# Altium footprint library Footprints1.PcbLib: 40 footprints (part 3 of 3)
Each footprint in its own frame and in the unit in brackets; x right, y up, seen from the top. Pads: shape width x height; smd on the part's side, far side on the other; paste and mask are expansions set on the pad; w line width, h text height; cw(c..) or ccw(c..) is an arc to the next point about the centre after c.
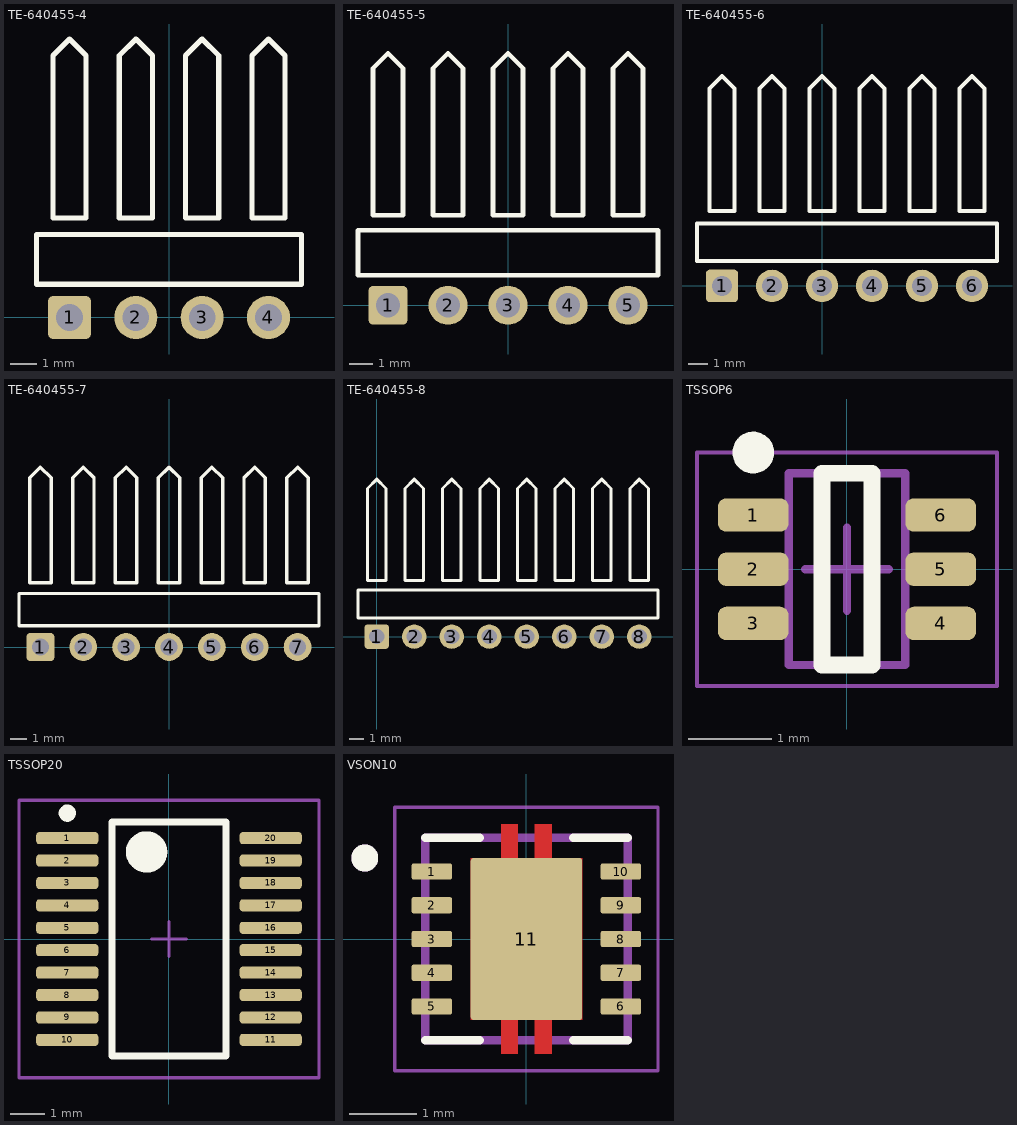
[diagram p2: the footprints below, top view; thin cyan lines are the x and y axes]

## TE-640455-4 [mm] "CONN HEADER RTANG 4POS .100 TIN"
pads (4):
  rrect25% 1.65x1.65 hole 1.02: 1(-3.81,0)
  round 1.65 hole 1.02: 2(-1.27,0) 3(1.27,0) 4(3.81,0)
Top Overlay:
  lines w0.2: -5.08,1.27 5.08,1.27 5.08,3.175 -5.08,3.175 -5.08,1.27 ; -4.445,3.81 -3.175,3.81 -3.175,10.033 -3.81,10.668 -4.445,10.033 -4.445,3.81 ; -1.905,3.81 -1.905,10.033 -1.27,10.668 -0.635,10.033 -0.635,3.81 -1.905,3.81 ; 0.635,3.81 1.905,3.81 1.905,10.033 1.27,10.668 0.635,10.033 0.635,3.81 ; 3.175,3.81 4.445,3.81 4.445,10.033 3.81,10.668 3.175,10.033 3.175,3.81
3D body "c-640455-4-y-3d.STEP": height 6.49, standoff -3.54, extent -5.08,-0.254 5.08,10.795

## TE-640455-5 [mm] "CONN HEADER RTANG 5POS .100 TIN"
pads (5):
  rrect25% 1.65x1.65 hole 1.02: 1(-5.08,0)
  round 1.65 hole 1.02: 2(-2.54,0) 3(0,0) 4(2.54,0) 5(5.08,0)
Top Overlay:
  lines w0.2: -6.35,1.27 6.35,1.27 6.35,3.175 -6.35,3.175 -6.35,1.27 ; -5.715,3.81 -4.445,3.81 -4.445,10.033 -5.08,10.668 -5.715,10.033 -5.715,3.81 ; -3.175,3.81 -3.175,10.033 -2.54,10.668 -1.905,10.033 -1.905,3.81 -3.175,3.81 ; -0.635,3.81 0.635,3.81 0.635,10.033 0,10.668 -0.635,10.033 -0.635,3.81 ; 1.905,3.81 3.175,3.81 3.175,10.033 2.54,10.668 1.905,10.033 1.905,3.81 ; 4.445,3.81 5.715,3.81 5.715,10.033 5.08,10.668 4.445,10.033 4.445,3.81
3D body "c-640455-5-y-3d.STEP": height 6.49, standoff -3.54, extent -6.35,-0.33 6.35,10.719

## TE-640455-6 [mm] "CONN HEADER RTANG 6POS .100 TIN"
pads (6):
  rrect25% 1.65x1.65 hole 1.02: 1(-5.08,0)
  round 1.65 hole 1.02: 2(-2.54,0) 3(0,0) 4(2.54,0) 5(5.08,0) 6(7.62,0)
Top Overlay:
  lines w0.2: -6.35,1.27 -6.35,3.175 8.89,3.175 8.89,1.27 -6.35,1.27 ; -5.715,3.81 -5.715,10.033 -5.08,10.668 -4.445,10.033 -4.445,3.81 -5.715,3.81 ; -3.175,3.81 -1.905,3.81 -1.905,10.033 -2.54,10.668 -3.175,10.033 -3.175,3.81 ; -0.635,3.81 -0.635,10.033 0,10.668 0.635,10.033 0.635,3.81 -0.635,3.81 ; 1.905,3.81 1.905,10.033 2.54,10.668 3.175,10.033 3.175,3.81 1.905,3.81 ; 4.445,3.81 4.445,10.033 5.08,10.668 5.715,10.033 5.715,3.81 4.445,3.81 ; 6.985,3.81 8.255,3.81 8.255,10.033 7.62,10.668 6.985,10.033 6.985,3.81
3D body "c-640455-6-y-3d.STEP": height 6.49, standoff -3.54, extent -6.35,-0.305 8.89,10.744

## TE-640455-7 [mm] "CONN HEADER RTANG 7POS .100 TIN"
pads (7):
  rrect25% 1.65x1.65 hole 1.02: 1(-7.62,0)
  round 1.65 hole 1.02: 2(-5.08,0) 3(-2.54,0) 4(0,0) 5(2.54,0) 6(5.08,0) 7(7.62,0)
Top Overlay:
  lines w0.2: -8.89,1.27 8.89,1.27 8.89,3.175 -8.89,3.175 -8.89,1.27 ; -8.255,3.81 -6.985,3.81 -6.985,10.033 -7.62,10.668 -8.255,10.033 -8.255,3.81 ; -5.715,3.81 -5.715,10.033 -5.08,10.668 -4.445,10.033 -4.445,3.81 -5.715,3.81 ; -3.175,3.81 -1.905,3.81 -1.905,10.033 -2.54,10.668 -3.175,10.033 -3.175,3.81 ; -0.635,3.81 0.635,3.81 0.635,10.033 0,10.668 -0.635,10.033 -0.635,3.81 ; 1.905,3.81 3.175,3.81 3.175,10.033 2.54,10.668 1.905,10.033 1.905,3.81 ; 4.445,3.81 5.715,3.81 5.715,10.033 5.08,10.668 4.445,10.033 4.445,3.81 ; 6.985,3.81 8.255,3.81 8.255,10.033 7.62,10.668 6.985,10.033 6.985,3.81
3D body "c-640455-7-y-3d.STEP": height 6.49, standoff -3.54, extent -8.89,-0.33 8.89,10.719

## TE-640455-8 [mm] "CONN HEADER RTANG 8POS .100 TIN"
pads (8):
  rrect25% 1.65x1.65 hole 1.02: 1(0,0)
  round 1.65 hole 1.02: 2(2.54,0) 3(5.08,0) 4(7.62,0) 5(10.16,0) 6(12.7,0) 7(15.24,0) 8(17.78,0)
Top Overlay:
  lines w0.2: -1.27,1.27 19.05,1.27 19.05,3.175 -1.27,3.175 -1.27,1.27 ; -0.635,3.81 0.635,3.81 0.635,10.033 0,10.668 -0.635,10.033 -0.635,3.81 ; 1.905,3.81 1.905,10.033 2.54,10.668 3.175,10.033 3.175,3.81 1.905,3.81 ; 4.445,3.81 5.715,3.81 5.715,10.033 5.08,10.668 4.445,10.033 4.445,3.81 ; 6.985,3.81 8.255,3.81 8.255,10.033 7.62,10.668 6.985,10.033 6.985,3.81 ; 9.525,3.81 10.795,3.81 10.795,10.033 10.16,10.668 9.525,10.033 9.525,3.81 ; 12.065,3.81 13.335,3.81 13.335,10.033 12.7,10.668 12.065,10.033 12.065,3.81 ; 14.605,3.81 15.875,3.81 15.875,10.033 15.24,10.668 14.605,10.033 14.605,3.81 ; 17.145,3.81 17.145,10.033 17.78,10.668 18.415,10.033 18.415,3.81 17.145,3.81
3D body "c-640455-7-y-3d.STEP": height 6.49, standoff -3.54, extent -1.27,-0.33 16.51,10.719

## TSSOP6 [mm]
height 2.65
pads (6):
  rrect50% 0.85x0.4 smd: 1(-1.125,0.65) 2(-1.125,0) 3(-1.125,-0.65) 4(1.125,-0.65) 5(1.125,0) 6(1.125,0.65)
Top Overlay:
  circle w0.25: c-1.125,1.4 r0.125
  lines w0.2: -0.3,-1.15 0.3,-1.15 0.3,1.15 -0.3,1.15 -0.3,-1.15
Top Assembly (Mech13):
  lines w0.1: -0.7,-1.15 0.7,-1.15 0.7,1.15 -0.7,1.15 -0.7,-1.15
Top Courtyard:
  lines w0.05: -1.8,-1.4 1.8,-1.4 1.8,1.4 -1.8,1.4 -1.8,-1.4
  lines w0.1: -0.5,0 0.5,0 ; 0,-0.5 0,0.5
3D body: height 2.65, standoff 0.1, extent -0.7,-1.15 0.7,1.15

## TSSOP20 [mm] "TSOP, 14-Leads, Body 5.1x4.5mm (max), Pitch 0.65mm, IPC Low Density"
height 1.2
pads (20):
  rrect50% 1.8x0.35 smd: 1(-2.95,2.925) 2(-2.95,2.275) 3(-2.95,1.625) 4(-2.95,0.975) 5(-2.95,0.325) 6(-2.95,-0.325) 7(-2.95,-0.975) 8(-2.95,-1.625) 9(-2.95,-2.275) 10(-2.95,-2.925) 11(2.95,-2.925) 12(2.95,-2.275) 13(2.95,-1.625) 14(2.95,-0.975) 15(2.95,-0.325) 16(2.95,0.325) 17(2.95,0.975) 18(2.95,1.625) 19(2.95,2.275) 20(2.95,2.925)
Top Overlay:
  circle w0.6: c-0.65,2.525 r0.3
  circle w0.25: c-2.95,3.65 r0.125
  lines w0.2: -1.65,-3.388 -1.65,3.388 1.65,3.388 1.65,-3.388 -1.65,-3.388
Top Courtyard:
  lines w0.1: -0.5,0 0.5,0 ; 0,-0.5 0,0.5 ; -4.35,-4.025 -4.35,4.025 4.35,4.025 4.35,-4.025 -4.35,-4.025
3D body "TSSOP20.STEP": height 1.09, standoff 0, extent -3.15,-3.35 3.13,3.15

## VSON10 [mm]
pads (11):
  rrect25% 0.6x0.24 smd mask+0: 1(-1.4,1) 2(-1.4,0.5) 3(-1.4,0) 4(-1.4,-0.5) 5(-1.4,-1) 6(1.4,-1) 7(1.4,-0.5) 8(1.4,0) 9(1.4,0.5) 10(1.4,1)
  rrect5% 1.65x2.4 smd paste-2 mask+0: 11(0,0)
Top Layer:
  region: 0.375,1.2 0.825,1.2 0.825,-1.2 0.375,-1.2 0.375,-1.7 0.125,-1.7 0.125,-1.2 -0.125,-1.2 -0.125,-1.7 -0.375,-1.7 -0.375,-1.2 -0.825,-1.2 -0.825,1.2 -0.375,1.2 -0.375,1.7 -0.125,1.7 -0.125,1.2 0.125,1.2 0.125,1.7 0.375,1.7
Top Overlay:
  circle w0.2: c-2.395,1.2 r0.1
  lines w0.127: -1.5,-1.5 -0.695,-1.5 ; -1.5,1.5 -0.695,1.5 ; 0.695,-1.5 1.5,-1.5 ; 0.695,1.5 1.5,1.5
Top Paste:
  region: -0.125,-1.7 -0.375,-1.7 -0.375,-1.36 -0.125,-1.36
  region: 0.375,-1.7 0.125,-1.7 0.125,-1.36 0.375,-1.36
  region: -0.125,1.36 -0.375,1.36 -0.375,1.7 -0.125,1.7
  region: 0.375,1.36 0.125,1.36 0.125,1.7 0.375,1.7
  region: 0.75,-1.16 -0.75,-1.16 -0.75,-0.1 0.75,-0.1
  region: 0.75,0.1 -0.75,0.1 -0.75,1.16 0.75,1.16
Top Solder:
  region: -1.03,0.81 -1.77,0.81 -1.77,1.19 -1.03,1.19
  region: -1.03,0.31 -1.77,0.31 -1.77,0.69 -1.03,0.69
  region: -1.03,-0.19 -1.77,-0.19 -1.77,0.19 -1.03,0.19
  region: -1.03,-0.69 -1.77,-0.69 -1.77,-0.31 -1.03,-0.31
  region: -1.03,-1.19 -1.77,-1.19 -1.77,-0.81 -1.03,-0.81
  region: 1.77,-1.19 1.03,-1.19 1.03,-0.81 1.77,-0.81
  region: 1.77,-0.69 1.03,-0.69 1.03,-0.31 1.77,-0.31
  region: 1.77,-0.19 1.03,-0.19 1.03,0.19 1.77,0.19
  region: 1.77,0.31 1.03,0.31 1.03,0.69 1.77,0.69
  region: 1.77,0.81 1.03,0.81 1.03,1.19 1.77,1.19
  region: 0.445,1.27 0.895,1.27 0.895,-1.27 0.445,-1.27 0.445,-1.77 0.055,-1.77 0.055,-1.27 -0.055,-1.27 -0.055,-1.77 -0.445,-1.77 -0.445,-1.27 -0.895,-1.27 -0.895,1.27 -0.445,1.27 -0.445,1.77 -0.055,1.77 -0.055,1.27 0.055,1.27 0.055,1.77 0.445,1.77
Top Assembly (Mech13):
  circle w0.2: c-2.395,1.2 r0.1
  lines w0.127: -1.5,-1.5 1.5,-1.5 1.5,1.5 -1.5,1.5 -1.5,-1.5
Top Courtyard:
  lines w0.05: -1.95,-1.95 1.95,-1.95 1.95,1.95 -1.95,1.95 -1.95,-1.95
3D body "step_temp.STEP": height 1, standoff 0, extent -1.5,-1.5 1.5,1.5